# EAGLE library part AOZ1282CI (library AOZ1282CI)
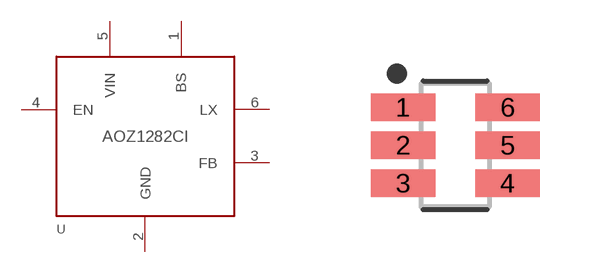
[diagram p0: symbol with the pads of SOT95P280X125-6; footprint SOT95P280X125-6]

Designator prefix U

## AOZ1282CI  [SOT95P280X125-6]
1  BS
2  GND
3  FB
4  EN
5  VIN
6  LX

## Footprint SOT95P280X125-6 (pad centres in mm)
6-SOT23, 0.95 mm pitch, 2.80 mm span, 2.90 X 1.60 X 1.25 mm body 6-pin SOT23 package with 0.95 mm pitch, 2.80 mm span with body size 2.90 X 1.60 X 1.25 mm
smd 1.616 x 0.689: 1 -1.31,0.95; 2 -1.31,0; 3 -1.31,-0.95; 4 1.31,-0.95; 5 1.31,0; 6 1.31,0.95